# EAGLE library part POLOLU_STEPPER_DRIVER_36V4 (library own_parts2)
Pololu Stepper Driver 36V4 Board: https://www.pololu.com/product/3730
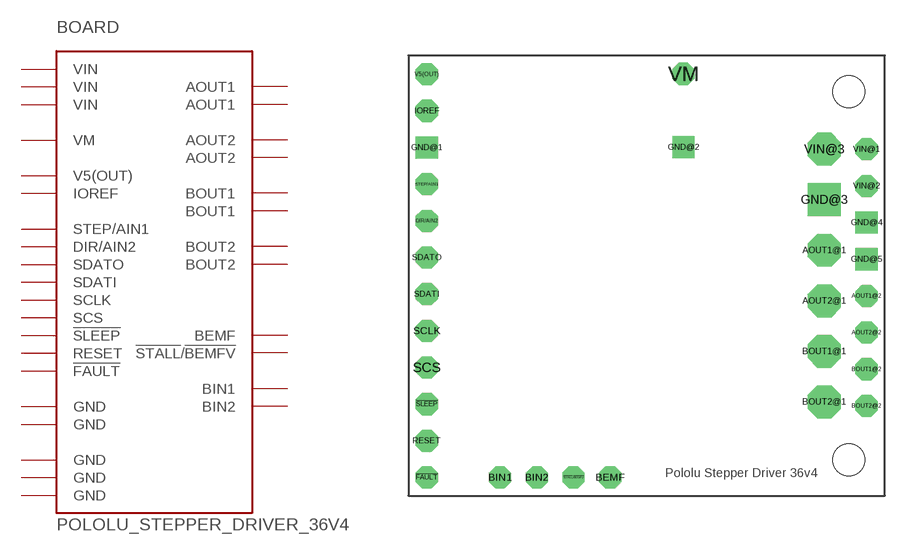
[diagram p9: symbol with the pads of POLOLU_STEPPER_DRIVER_36V4; footprint POLOLU_STEPPER_DRIVER_36V4]

Designator prefix BOARD

## POLOLU_STEPPER_DRIVER_36V4  [POLOLU_STEPPER_DRIVER_36V4]
!FAULT  !FAULT
!SLEEP  !SLEEP
!STALL!/!BEMFV  !STALL!/!BEMFV
AOUT1@1  AOUT1
AOUT1@2  AOUT1
AOUT2@1  AOUT2
AOUT2@2  AOUT2
BEMF  BEMF
BIN1  BIN1
BIN2  BIN2
BOUT1@1  BOUT1
BOUT1@2  BOUT1
BOUT2@1  BOUT2
BOUT2@2  BOUT2
DIR/AIN2  DIR/AIN2
GND@1  GND
GND@2  GND
GND@3  GND
GND@4  GND
GND@5  GND
IOREF  IOREF
RESET  RESET
SCLK  SCLK
SCS  SCS
SDATI  SDATI
SDATO  SDATO
STEP/AIN1  STEP/AIN1
V5(OUT)  V5(OUT)
VIN@1  VIN
VIN@2  VIN
VIN@3  VIN
VM  VM

## Footprint POLOLU_STEPPER_DRIVER_36V4 (pad centres in mm)
Pololu Stepper Driver 36v4 Height: 7.8mm
drill 1.02 octagon: !FAULT 1.27,1.27; !SLEEP 1.27,6.35; !STALL!/!BEMFV 11.43,1.27; AOUT1@2 31.73,13.85; AOUT2@2 31.73,11.31; BEMF 13.97,1.27; BIN1 6.35,1.27; BIN2 8.89,1.27; BOUT1@2 31.73,8.77; BOUT2@2 31.73,6.23; DIR/AIN2 1.27,19.05; IOREF 1.27,26.67; RESET 1.27,3.81; SCLK 1.27,11.43; SCS 1.27,8.89; SDATI 1.27,13.97; SDATO 1.27,16.51; STEP/AIN1 1.27,21.59; V5(OUT) 1.27,29.21; VIN@1 31.73,24.01; VIN@2 31.73,21.47; VM 19.05,29.23
drill 1.52 octagon: AOUT1@1 28.81,17.01; AOUT2@1 28.81,13.51; BOUT1@1 28.81,10.01; BOUT2@1 28.81,6.51; VIN@3 28.81,24.01
drill 1.02 square: GND@1 1.27,24.13; GND@2 19.05,24.15; GND@4 31.73,18.93; GND@5 31.73,16.39
drill 1.52 square: GND@3 28.81,20.51
hole 2.2 at 30.5,2.5
hole 2.2 at 30.5,28